# Altium integrated library Maxim Real-Time Clocks (RTCs).IntLib: 548 symbols (part 4 of 13)
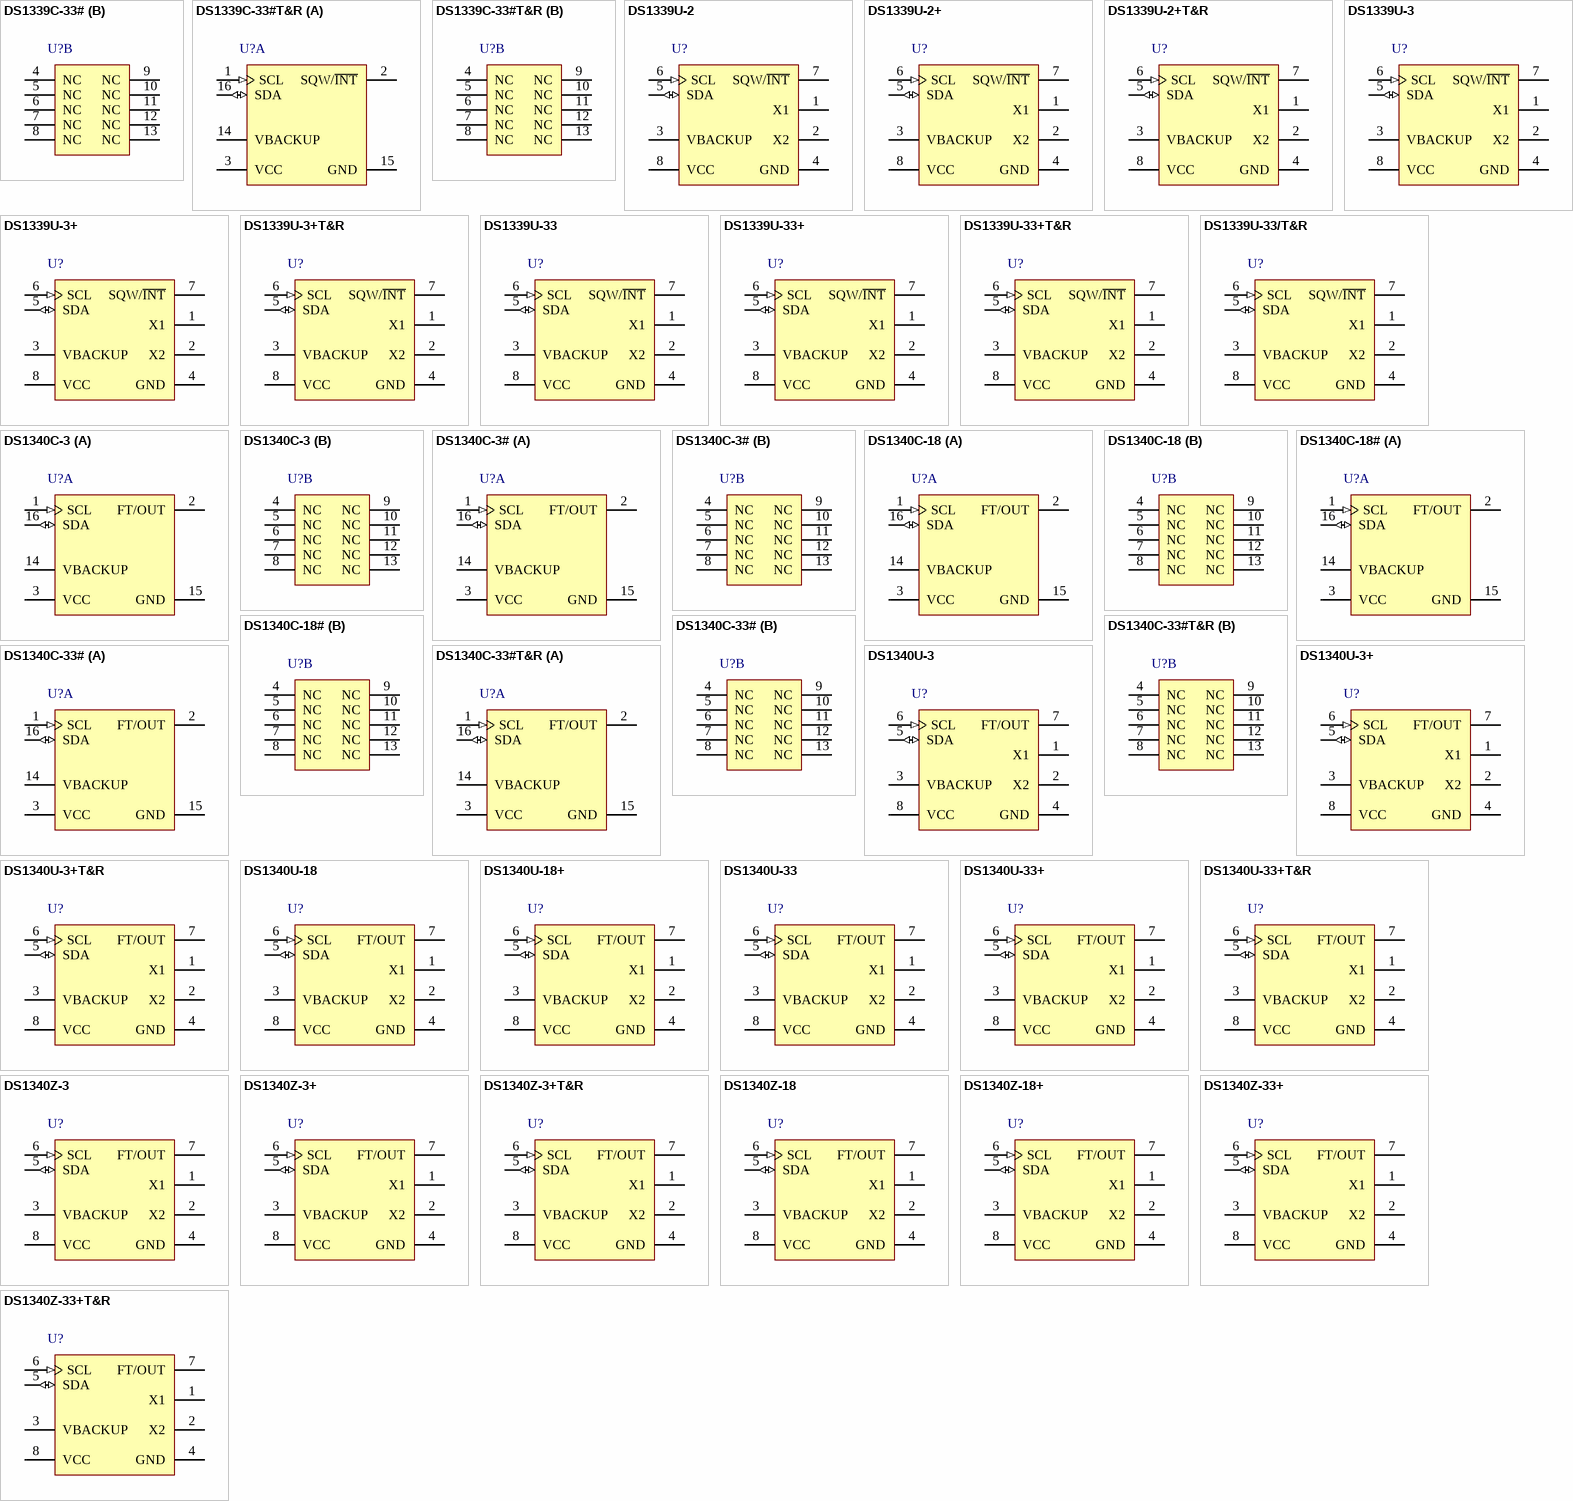
[diagram p24: symbols DS1339C-33# to DS1340Z-33+T&R]

## DS1339U-2
designator U?
I2C Serial Real-Time Clock, 2.0V, 8-Pin uSOP, -40 to 85 degC; DatasheetVersion: Apr-2011; PackageVersion: revL, 2009; PackageReference: U8-1; PackageDescription: 8-Pin Micro-MAX, Thin Shrink Small-Outline, 0.65 mm Pitch, uMAX, uSOP; Code_JEDEC: MO-187-AA; ComponentLink1Description: Manufacturer URL; ComponentLink1URL: http://www.maxim-ic.com; ComponentLink2Description: Datasheet; ComponentLink2URL: http://datasheets.maxim-ic.com/en/ds/DS1339-DS1339U.pdf; ComponentLink3Description: Package Specification; ComponentLink3URL: http://pdfserv.maxim-ic.com/package_dwgs/21-0036.PDF
footprint U8-1_N (TSOP, 8-Leads, Body 3x3mm, Pitch 0.65mm, IPC Medium Density)
footprint U8-1_L (TSOP, 8-Leads, Body 3x3mm, Pitch 0.65mm, IPC High Density)
footprint U8-1_M (TSOP, 8-Leads, Body 3x3mm, Pitch 0.65mm, IPC Low Density)
pins: 1 X1, 2 X2, 3 VBACKUP (power), 4 GND (power), 5 SDA (io), 6 SCL (in), 7 SQW/~{INT} (oc), 8 VCC (power)

## DS1339U-2+
designator U?
I2C Serial Real-Time Clock, 2.0V, 8-Pin uSOP, -40 to 85 degC, Pb-Free; DatasheetVersion: Apr-2011; PackageVersion: revL, 2009; PackageReference: U8+1; PackageDescription: 8-Pin Micro-MAX, Thin Shrink Small-Outline, 0.65 mm Pitch, uMAX, uSOP, Pb-Free; Code_JEDEC: MO-187-AA; ComponentLink1Description: Manufacturer URL; ComponentLink1URL: http://www.maxim-ic.com; ComponentLink2Description: Datasheet; ComponentLink2URL: http://datasheets.maxim-ic.com/en/ds/DS1339-DS1339U.pdf; ComponentLink3Description: Package Specification; ComponentLink3URL: http://pdfserv.maxim-ic.com/package_dwgs/21-0036.PDF
footprint U8+1_N (TSOP, 8-Leads, Body 3x3mm, Pitch 0.65mm, IPC Medium Density)
footprint U8+1_L (TSOP, 8-Leads, Body 3x3mm, Pitch 0.65mm, IPC High Density)
footprint U8+1_M (TSOP, 8-Leads, Body 3x3mm, Pitch 0.65mm, IPC Low Density)
pins: 1 X1, 2 X2, 3 VBACKUP (power), 4 GND (power), 5 SDA (io), 6 SCL (in), 7 SQW/~{INT} (oc), 8 VCC (power)

## DS1339U-2+T&R
designator U?
I2C Serial Real-Time Clock, 2.0V, 8-Pin uSOP, -40 to 85 degC, Pb-Free, Reel; DatasheetVersion: Apr-2011; PackageVersion: revL, 2009; PackageReference: U8+1; PackageDescription: 8-Pin Micro-MAX, Thin Shrink Small-Outline, 0.65 mm Pitch, uMAX, uSOP, Pb-Free; Code_JEDEC: MO-187-AA; ComponentLink1Description: Manufacturer URL; ComponentLink1URL: http://www.maxim-ic.com; ComponentLink2Description: Datasheet; ComponentLink2URL: http://datasheets.maxim-ic.com/en/ds/DS1339-DS1339U.pdf; ComponentLink3Description: Package Specification; ComponentLink3URL: http://pdfserv.maxim-ic.com/package_dwgs/21-0036.PDF
footprint U8+1_N (TSOP, 8-Leads, Body 3x3mm, Pitch 0.65mm, IPC Medium Density)
footprint U8+1_L (TSOP, 8-Leads, Body 3x3mm, Pitch 0.65mm, IPC High Density)
footprint U8+1_M (TSOP, 8-Leads, Body 3x3mm, Pitch 0.65mm, IPC Low Density)
pins: 1 X1, 2 X2, 3 VBACKUP (power), 4 GND (power), 5 SDA (io), 6 SCL (in), 7 SQW/~{INT} (oc), 8 VCC (power)

## DS1339U-3
designator U?
I2C Serial Real-Time Clock, 3.0V, 8-Pin uSOP, -40 to 85 degC; DatasheetVersion: Apr-2011; PackageVersion: revL, 2009; PackageReference: U8-1; PackageDescription: 8-Pin Micro-MAX, Thin Shrink Small-Outline, 0.65 mm Pitch, uMAX, uSOP; Code_JEDEC: MO-187-AA; ComponentLink1Description: Manufacturer URL; ComponentLink1URL: http://www.maxim-ic.com; ComponentLink2Description: Datasheet; ComponentLink2URL: http://datasheets.maxim-ic.com/en/ds/DS1339-DS1339U.pdf; ComponentLink3Description: Package Specification; ComponentLink3URL: http://pdfserv.maxim-ic.com/package_dwgs/21-0036.PDF
footprint U8-1_N (TSOP, 8-Leads, Body 3x3mm, Pitch 0.65mm, IPC Medium Density)
footprint U8-1_L (TSOP, 8-Leads, Body 3x3mm, Pitch 0.65mm, IPC High Density)
footprint U8-1_M (TSOP, 8-Leads, Body 3x3mm, Pitch 0.65mm, IPC Low Density)
pins: 1 X1, 2 X2, 3 VBACKUP (power), 4 GND (power), 5 SDA (io), 6 SCL (in), 7 SQW/~{INT} (oc), 8 VCC (power)

## DS1339U-3+
designator U?
I2C Serial Real-Time Clock, 3.0V, 8-Pin uSOP, -40 to 85 degC, Pb-Free; DatasheetVersion: Apr-2011; PackageVersion: revL, 2009; PackageReference: U8+1; PackageDescription: 8-Pin Micro-MAX, Thin Shrink Small-Outline, 0.65 mm Pitch, uMAX, uSOP, Pb-Free; Code_JEDEC: MO-187-AA; ComponentLink1Description: Manufacturer URL; ComponentLink1URL: http://www.maxim-ic.com; ComponentLink2Description: Datasheet; ComponentLink2URL: http://datasheets.maxim-ic.com/en/ds/DS1339-DS1339U.pdf; ComponentLink3Description: Package Specification; ComponentLink3URL: http://pdfserv.maxim-ic.com/package_dwgs/21-0036.PDF
footprint U8+1_N (TSOP, 8-Leads, Body 3x3mm, Pitch 0.65mm, IPC Medium Density)
footprint U8+1_L (TSOP, 8-Leads, Body 3x3mm, Pitch 0.65mm, IPC High Density)
footprint U8+1_M (TSOP, 8-Leads, Body 3x3mm, Pitch 0.65mm, IPC Low Density)
pins: 1 X1, 2 X2, 3 VBACKUP (power), 4 GND (power), 5 SDA (io), 6 SCL (in), 7 SQW/~{INT} (oc), 8 VCC (power)

## DS1339U-3+T&R
designator U?
I2C Serial Real-Time Clock, 3.0V, 8-Pin uSOP, -40 to 85 degC, Pb-Free, Reel; DatasheetVersion: Apr-2011; PackageVersion: revL, 2009; PackageReference: U8+1; PackageDescription: 8-Pin Micro-MAX, Thin Shrink Small-Outline, 0.65 mm Pitch, uMAX, uSOP, Pb-Free; Code_JEDEC: MO-187-AA; ComponentLink1Description: Manufacturer URL; ComponentLink1URL: http://www.maxim-ic.com; ComponentLink2Description: Datasheet; ComponentLink2URL: http://datasheets.maxim-ic.com/en/ds/DS1339-DS1339U.pdf; ComponentLink3Description: Package Specification; ComponentLink3URL: http://pdfserv.maxim-ic.com/package_dwgs/21-0036.PDF
footprint U8+1_N (TSOP, 8-Leads, Body 3x3mm, Pitch 0.65mm, IPC Medium Density)
footprint U8+1_L (TSOP, 8-Leads, Body 3x3mm, Pitch 0.65mm, IPC High Density)
footprint U8+1_M (TSOP, 8-Leads, Body 3x3mm, Pitch 0.65mm, IPC Low Density)
pins: 1 X1, 2 X2, 3 VBACKUP (power), 4 GND (power), 5 SDA (io), 6 SCL (in), 7 SQW/~{INT} (oc), 8 VCC (power)

## DS1339U-33
designator U?
I2C Serial Real-Time Clock, 3.3V, 8-Pin uSOP, -40 to 85 degC; DatasheetVersion: Apr-2011; PackageVersion: revL, 2009; PackageReference: U8-1; PackageDescription: 8-Pin Micro-MAX, Thin Shrink Small-Outline, 0.65 mm Pitch, uMAX, uSOP; Code_JEDEC: MO-187-AA; ComponentLink1Description: Manufacturer URL; ComponentLink1URL: http://www.maxim-ic.com; ComponentLink2Description: Datasheet; ComponentLink2URL: http://datasheets.maxim-ic.com/en/ds/DS1339-DS1339U.pdf; ComponentLink3Description: Package Specification; ComponentLink3URL: http://pdfserv.maxim-ic.com/package_dwgs/21-0036.PDF
footprint U8-1_N (TSOP, 8-Leads, Body 3x3mm, Pitch 0.65mm, IPC Medium Density)
footprint U8-1_L (TSOP, 8-Leads, Body 3x3mm, Pitch 0.65mm, IPC High Density)
footprint U8-1_M (TSOP, 8-Leads, Body 3x3mm, Pitch 0.65mm, IPC Low Density)
pins: 1 X1, 2 X2, 3 VBACKUP (power), 4 GND (power), 5 SDA (io), 6 SCL (in), 7 SQW/~{INT} (oc), 8 VCC (power)

## DS1339U-33+
designator U?
I2C Serial Real-Time Clock, 3.3V, 8-Pin uSOP, -40 to 85 degC, Pb-Free; DatasheetVersion: Apr-2011; PackageVersion: revL, 2009; PackageReference: U8+1; PackageDescription: 8-Pin Micro-MAX, Thin Shrink Small-Outline, 0.65 mm Pitch, uMAX, uSOP, Pb-Free; Code_JEDEC: MO-187-AA; ComponentLink1Description: Manufacturer URL; ComponentLink1URL: http://www.maxim-ic.com; ComponentLink2Description: Datasheet; ComponentLink2URL: http://datasheets.maxim-ic.com/en/ds/DS1339-DS1339U.pdf; ComponentLink3Description: Package Specification; ComponentLink3URL: http://pdfserv.maxim-ic.com/package_dwgs/21-0036.PDF
footprint U8+1_N (TSOP, 8-Leads, Body 3x3mm, Pitch 0.65mm, IPC Medium Density)
footprint U8+1_L (TSOP, 8-Leads, Body 3x3mm, Pitch 0.65mm, IPC High Density)
footprint U8+1_M (TSOP, 8-Leads, Body 3x3mm, Pitch 0.65mm, IPC Low Density)
pins: 1 X1, 2 X2, 3 VBACKUP (power), 4 GND (power), 5 SDA (io), 6 SCL (in), 7 SQW/~{INT} (oc), 8 VCC (power)

## DS1339U-33+T&R
designator U?
I2C Serial Real-Time Clock, 3.3V, 8-Pin uSOP, -40 to 85 degC, Pb-Free, Reel; DatasheetVersion: Apr-2011; PackageVersion: revL, 2009; PackageReference: U8+1; PackageDescription: 8-Pin Micro-MAX, Thin Shrink Small-Outline, 0.65 mm Pitch, uMAX, uSOP, Pb-Free; Code_JEDEC: MO-187-AA; ComponentLink1Description: Manufacturer URL; ComponentLink1URL: http://www.maxim-ic.com; ComponentLink2Description: Datasheet; ComponentLink2URL: http://datasheets.maxim-ic.com/en/ds/DS1339-DS1339U.pdf; ComponentLink3Description: Package Specification; ComponentLink3URL: http://pdfserv.maxim-ic.com/package_dwgs/21-0036.PDF
footprint U8+1_N (TSOP, 8-Leads, Body 3x3mm, Pitch 0.65mm, IPC Medium Density)
footprint U8+1_L (TSOP, 8-Leads, Body 3x3mm, Pitch 0.65mm, IPC High Density)
footprint U8+1_M (TSOP, 8-Leads, Body 3x3mm, Pitch 0.65mm, IPC Low Density)
pins: 1 X1, 2 X2, 3 VBACKUP (power), 4 GND (power), 5 SDA (io), 6 SCL (in), 7 SQW/~{INT} (oc), 8 VCC (power)

## DS1339U-33/T&R
designator U?
I2C Serial Real-Time Clock, 3.3V, 8-Pin uSOP, -40 to 85 degC, Reel; DatasheetVersion: Apr-2011; PackageVersion: revL, 2009; PackageReference: U8-1; PackageDescription: 8-Pin Micro-MAX, Thin Shrink Small-Outline, 0.65 mm Pitch, uMAX, uSOP; Code_JEDEC: MO-187-AA; ComponentLink1Description: Manufacturer URL; ComponentLink1URL: http://www.maxim-ic.com; ComponentLink2Description: Datasheet; ComponentLink2URL: http://datasheets.maxim-ic.com/en/ds/DS1339-DS1339U.pdf; ComponentLink3Description: Package Specification; ComponentLink3URL: http://pdfserv.maxim-ic.com/package_dwgs/21-0036.PDF
footprint U8-1_N (TSOP, 8-Leads, Body 3x3mm, Pitch 0.65mm, IPC Medium Density)
footprint U8-1_L (TSOP, 8-Leads, Body 3x3mm, Pitch 0.65mm, IPC High Density)
footprint U8-1_M (TSOP, 8-Leads, Body 3x3mm, Pitch 0.65mm, IPC Low Density)
pins: 1 X1, 2 X2, 3 VBACKUP (power), 4 GND (power), 5 SDA (io), 6 SCL (in), 7 SQW/~{INT} (oc), 8 VCC (power)

## DS1340C-3
designator U?
I2C Real-Time Clock with Trickle Charger, 3.0V, 16-Pin SO, -40 to 85 degC; DatasheetVersion: rev7, Aug-2011; PackageVersion: revD, 2010; PackageReference: W16-H2; PackageDescription: 16-Pin Small-Outline IC, Wide (0.3in), 1.27 mm Pitch, SOIC (W); Code_JEDEC: MS-013-AA; Code_IPC: SOIC127P1030-16; ComponentLink1Description: Manufacturer URL; ComponentLink1URL: http://www.maxim-ic.com; ComponentLink2Description: Datasheet; ComponentLink2URL: http://datasheets.maxim-ic.com/en/ds/DS1340-DS1340C.pdf; ComponentLink3Description: Package Specification; ComponentLink3URL: http://pdfserv.maxim-ic.com/package_dwgs/21-0042.PDF
footprint W16-H2_N (SOIC, 16-Leads, Body 10.3x7.5mm, Pitch 1.27mm, IPC Medium Density)
footprint W16-H2_L (SOIC, 16-Leads, Body 10.3x7.5mm, Pitch 1.27mm, IPC High Density)
footprint W16-H2_M (SOIC, 16-Leads, Body 10.3x7.5mm, Pitch 1.27mm, IPC Low Density)
part A pins: 1 SCL (in), 2 FT/OUT (oc), 3 VCC (power), 14 VBACKUP (power), 15 GND (power), 16 SDA (io)
part B pins: 4 NC, 5 NC, 6 NC, 7 NC, 8 NC, 9 NC, 10 NC, 11 NC, 12 NC, 13 NC

## DS1340C-3#
designator U?
I2C Real-Time Clock with Trickle Charger, 3.0V, 16-Pin SO, -40 to 85 degC, RoHS Qualified; DatasheetVersion: rev7, Aug-2011; PackageVersion: revD, 2010; PackageReference: W16#H2; PackageDescription: 16-Pin Small-Outline IC, Wide (0.3in), 1.27 mm Pitch, SOIC (W), RoHS Qualified; Code_JEDEC: MS-013-AA; Code_IPC: SOIC127P1030-16; ComponentLink1Description: Manufacturer URL; ComponentLink1URL: http://www.maxim-ic.com; ComponentLink2Description: Datasheet; ComponentLink2URL: http://datasheets.maxim-ic.com/en/ds/DS1340-DS1340C.pdf; ComponentLink3Description: Package Specification; ComponentLink3URL: http://pdfserv.maxim-ic.com/package_dwgs/21-0042.PDF
footprint W16#H2_N (SOIC, 16-Leads, Body 10.3x7.5mm, Pitch 1.27mm, IPC Medium Density)
footprint W16#H2_L (SOIC, 16-Leads, Body 10.3x7.5mm, Pitch 1.27mm, IPC High Density)
footprint W16#H2_M (SOIC, 16-Leads, Body 10.3x7.5mm, Pitch 1.27mm, IPC Low Density)
part A pins: 1 SCL (in), 2 FT/OUT (oc), 3 VCC (power), 14 VBACKUP (power), 15 GND (power), 16 SDA (io)
part B pins: 4 NC, 5 NC, 6 NC, 7 NC, 8 NC, 9 NC, 10 NC, 11 NC, 12 NC, 13 NC

## DS1340C-18
designator U?
I2C Real-Time Clock with Trickle Charger, 1.8V, 16-Pin SO, -40 to 85 degC; DatasheetVersion: rev7, Aug-2011; PackageVersion: revD, 2010; PackageReference: W16-H2; PackageDescription: 16-Pin Small-Outline IC, Wide (0.3in), 1.27 mm Pitch, SOIC (W); Code_JEDEC: MS-013-AA; Code_IPC: SOIC127P1030-16; ComponentLink1Description: Manufacturer URL; ComponentLink1URL: http://www.maxim-ic.com; ComponentLink2Description: Datasheet; ComponentLink2URL: http://datasheets.maxim-ic.com/en/ds/DS1340-DS1340C.pdf; ComponentLink3Description: Package Specification; ComponentLink3URL: http://pdfserv.maxim-ic.com/package_dwgs/21-0042.PDF
footprint W16-H2_N (SOIC, 16-Leads, Body 10.3x7.5mm, Pitch 1.27mm, IPC Medium Density)
footprint W16-H2_L (SOIC, 16-Leads, Body 10.3x7.5mm, Pitch 1.27mm, IPC High Density)
footprint W16-H2_M (SOIC, 16-Leads, Body 10.3x7.5mm, Pitch 1.27mm, IPC Low Density)
part A pins: 1 SCL (in), 2 FT/OUT (oc), 3 VCC (power), 14 VBACKUP (power), 15 GND (power), 16 SDA (io)
part B pins: 4 NC, 5 NC, 6 NC, 7 NC, 8 NC, 9 NC, 10 NC, 11 NC, 12 NC, 13 NC

## DS1340C-18#
designator U?
I2C Real-Time Clock with Trickle Charger, 1.8V, 16-Pin SO, -40 to 85 degC, RoHS Qualified; DatasheetVersion: rev7, Aug-2011; PackageVersion: revD, 2010; PackageReference: W16#H2; PackageDescription: 16-Pin Small-Outline IC, Wide (0.3in), 1.27 mm Pitch, SOIC (W), RoHS Qualified; Code_JEDEC: MS-013-AA; Code_IPC: SOIC127P1030-16; ComponentLink1Description: Manufacturer URL; ComponentLink1URL: http://www.maxim-ic.com; ComponentLink2Description: Datasheet; ComponentLink2URL: http://datasheets.maxim-ic.com/en/ds/DS1340-DS1340C.pdf; ComponentLink3Description: Package Specification; ComponentLink3URL: http://pdfserv.maxim-ic.com/package_dwgs/21-0042.PDF
footprint W16#H2_N (SOIC, 16-Leads, Body 10.3x7.5mm, Pitch 1.27mm, IPC Medium Density)
footprint W16#H2_L (SOIC, 16-Leads, Body 10.3x7.5mm, Pitch 1.27mm, IPC High Density)
footprint W16#H2_M (SOIC, 16-Leads, Body 10.3x7.5mm, Pitch 1.27mm, IPC Low Density)
part A pins: 1 SCL (in), 2 FT/OUT (oc), 3 VCC (power), 14 VBACKUP (power), 15 GND (power), 16 SDA (io)
part B pins: 4 NC, 5 NC, 6 NC, 7 NC, 8 NC, 9 NC, 10 NC, 11 NC, 12 NC, 13 NC

## DS1340C-33#
designator U?
I2C Real-Time Clock with Trickle Charger, 3.3V, 16-Pin SO, -40 to 85 degC, RoHS Qualified; DatasheetVersion: rev7, Aug-2011; PackageVersion: revD, 2010; PackageReference: W16#H2; PackageDescription: 16-Pin Small-Outline IC, Wide (0.3in), 1.27 mm Pitch, SOIC (W), RoHS Qualified; Code_JEDEC: MS-013-AA; Code_IPC: SOIC127P1030-16; ComponentLink1Description: Manufacturer URL; ComponentLink1URL: http://www.maxim-ic.com; ComponentLink2Description: Datasheet; ComponentLink2URL: http://datasheets.maxim-ic.com/en/ds/DS1340-DS1340C.pdf; ComponentLink3Description: Package Specification; ComponentLink3URL: http://pdfserv.maxim-ic.com/package_dwgs/21-0042.PDF
footprint W16#H2_N (SOIC, 16-Leads, Body 10.3x7.5mm, Pitch 1.27mm, IPC Medium Density)
footprint W16#H2_L (SOIC, 16-Leads, Body 10.3x7.5mm, Pitch 1.27mm, IPC High Density)
footprint W16#H2_M (SOIC, 16-Leads, Body 10.3x7.5mm, Pitch 1.27mm, IPC Low Density)
part A pins: 1 SCL (in), 2 FT/OUT (oc), 3 VCC (power), 14 VBACKUP (power), 15 GND (power), 16 SDA (io)
part B pins: 4 NC, 5 NC, 6 NC, 7 NC, 8 NC, 9 NC, 10 NC, 11 NC, 12 NC, 13 NC

## DS1340C-33#T&R
designator U?
I2C Real-Time Clock with Trickle Charger, 3.3V, 16-Pin SO, -40 to 85 degC, RoHS Qualified, Reel; DatasheetVersion: rev7, Aug-2011; PackageVersion: revD, 2010; PackageReference: W16#H2; PackageDescription: 16-Pin Small-Outline IC, Wide (0.3in), 1.27 mm Pitch, SOIC (W), RoHS Qualified; Code_JEDEC: MS-013-AA; Code_IPC: SOIC127P1030-16; ComponentLink1Description: Manufacturer URL; ComponentLink1URL: http://www.maxim-ic.com; ComponentLink2Description: Datasheet; ComponentLink2URL: http://datasheets.maxim-ic.com/en/ds/DS1340-DS1340C.pdf; ComponentLink3Description: Package Specification; ComponentLink3URL: http://pdfserv.maxim-ic.com/package_dwgs/21-0042.PDF
footprint W16#H2_N (SOIC, 16-Leads, Body 10.3x7.5mm, Pitch 1.27mm, IPC Medium Density)
footprint W16#H2_L (SOIC, 16-Leads, Body 10.3x7.5mm, Pitch 1.27mm, IPC High Density)
footprint W16#H2_M (SOIC, 16-Leads, Body 10.3x7.5mm, Pitch 1.27mm, IPC Low Density)
part A pins: 1 SCL (in), 2 FT/OUT (oc), 3 VCC (power), 14 VBACKUP (power), 15 GND (power), 16 SDA (io)
part B pins: 4 NC, 5 NC, 6 NC, 7 NC, 8 NC, 9 NC, 10 NC, 11 NC, 12 NC, 13 NC

## DS1340U-3
designator U?
I2C Real-Time Clock with Trickle Charger, 3.0V, 8-Pin uSOP, -40 to 85 degC; DatasheetVersion: rev7, Aug-2011; PackageVersion: revL, 2009; PackageReference: U8-1; PackageDescription: 8-Pin Micro-MAX, Thin Shrink Small-Outline, 0.65 mm Pitch, uMAX, uSOP; Code_JEDEC: MO-187-AA; ComponentLink1Description: Manufacturer URL; ComponentLink1URL: http://www.maxim-ic.com; ComponentLink2Description: Datasheet; ComponentLink2URL: http://datasheets.maxim-ic.com/en/ds/DS1340-DS1340C.pdf; ComponentLink3Description: Package Specification; ComponentLink3URL: http://pdfserv.maxim-ic.com/package_dwgs/21-0036.PDF
footprint U8-1_N (TSOP, 8-Leads, Body 3x3mm, Pitch 0.65mm, IPC Medium Density)
footprint U8-1_L (TSOP, 8-Leads, Body 3x3mm, Pitch 0.65mm, IPC High Density)
footprint U8-1_M (TSOP, 8-Leads, Body 3x3mm, Pitch 0.65mm, IPC Low Density)
pins: 1 X1, 2 X2, 3 VBACKUP (power), 4 GND (power), 5 SDA (io), 6 SCL (in), 7 FT/OUT (oc), 8 VCC (power)

## DS1340U-3+
designator U?
I2C Real-Time Clock with Trickle Charger, 3.0V, 8-Pin uSOP, -40 to 85 degC, Pb-Free; DatasheetVersion: rev7, Aug-2011; PackageVersion: revL, 2009; PackageReference: U8+1; PackageDescription: 8-Pin Micro-MAX, Thin Shrink Small-Outline, 0.65 mm Pitch, uMAX, uSOP, Pb-Free; Code_JEDEC: MO-187-AA; ComponentLink1Description: Manufacturer URL; ComponentLink1URL: http://www.maxim-ic.com; ComponentLink2Description: Datasheet; ComponentLink2URL: http://datasheets.maxim-ic.com/en/ds/DS1340-DS1340C.pdf; ComponentLink3Description: Package Specification; ComponentLink3URL: http://pdfserv.maxim-ic.com/package_dwgs/21-0036.PDF
footprint U8+1_N (TSOP, 8-Leads, Body 3x3mm, Pitch 0.65mm, IPC Medium Density)
footprint U8+1_L (TSOP, 8-Leads, Body 3x3mm, Pitch 0.65mm, IPC High Density)
footprint U8+1_M (TSOP, 8-Leads, Body 3x3mm, Pitch 0.65mm, IPC Low Density)
pins: 1 X1, 2 X2, 3 VBACKUP (power), 4 GND (power), 5 SDA (io), 6 SCL (in), 7 FT/OUT (oc), 8 VCC (power)

## DS1340U-3+T&R
designator U?
I2C Real-Time Clock with Trickle Charger, 3.0V, 8-Pin uSOP, -40 to 85 degC, Pb-Free, Reel; DatasheetVersion: rev7, Aug-2011; PackageVersion: revL, 2009; PackageReference: U8+1; PackageDescription: 8-Pin Micro-MAX, Thin Shrink Small-Outline, 0.65 mm Pitch, uMAX, uSOP, Pb-Free; Code_JEDEC: MO-187-AA; ComponentLink1Description: Manufacturer URL; ComponentLink1URL: http://www.maxim-ic.com; ComponentLink2Description: Datasheet; ComponentLink2URL: http://datasheets.maxim-ic.com/en/ds/DS1340-DS1340C.pdf; ComponentLink3Description: Package Specification; ComponentLink3URL: http://pdfserv.maxim-ic.com/package_dwgs/21-0036.PDF
footprint U8+1_N (TSOP, 8-Leads, Body 3x3mm, Pitch 0.65mm, IPC Medium Density)
footprint U8+1_L (TSOP, 8-Leads, Body 3x3mm, Pitch 0.65mm, IPC High Density)
footprint U8+1_M (TSOP, 8-Leads, Body 3x3mm, Pitch 0.65mm, IPC Low Density)
pins: 1 X1, 2 X2, 3 VBACKUP (power), 4 GND (power), 5 SDA (io), 6 SCL (in), 7 FT/OUT (oc), 8 VCC (power)

## DS1340U-18
designator U?
I2C Real-Time Clock with Trickle Charger, 1.8V, 8-Pin uSOP, -40 to 85 degC; DatasheetVersion: rev7, Aug-2011; PackageVersion: revL, 2009; PackageReference: U8-1; PackageDescription: 8-Pin Micro-MAX, Thin Shrink Small-Outline, 0.65 mm Pitch, uMAX, uSOP; Code_JEDEC: MO-187-AA; ComponentLink1Description: Manufacturer URL; ComponentLink1URL: http://www.maxim-ic.com; ComponentLink2Description: Datasheet; ComponentLink2URL: http://datasheets.maxim-ic.com/en/ds/DS1340-DS1340C.pdf; ComponentLink3Description: Package Specification; ComponentLink3URL: http://pdfserv.maxim-ic.com/package_dwgs/21-0036.PDF
footprint U8-1_N (TSOP, 8-Leads, Body 3x3mm, Pitch 0.65mm, IPC Medium Density)
footprint U8-1_L (TSOP, 8-Leads, Body 3x3mm, Pitch 0.65mm, IPC High Density)
footprint U8-1_M (TSOP, 8-Leads, Body 3x3mm, Pitch 0.65mm, IPC Low Density)
pins: 1 X1, 2 X2, 3 VBACKUP (power), 4 GND (power), 5 SDA (io), 6 SCL (in), 7 FT/OUT (oc), 8 VCC (power)

## DS1340U-18+
designator U?
I2C Real-Time Clock with Trickle Charger, 1.8V, 8-Pin uSOP, -40 to 85 degC, Pb-Free; DatasheetVersion: rev7, Aug-2011; PackageVersion: revL, 2009; PackageReference: U8+1; PackageDescription: 8-Pin Micro-MAX, Thin Shrink Small-Outline, 0.65 mm Pitch, uMAX, uSOP, Pb-Free; Code_JEDEC: MO-187-AA; ComponentLink1Description: Manufacturer URL; ComponentLink1URL: http://www.maxim-ic.com; ComponentLink2Description: Datasheet; ComponentLink2URL: http://datasheets.maxim-ic.com/en/ds/DS1340-DS1340C.pdf; ComponentLink3Description: Package Specification; ComponentLink3URL: http://pdfserv.maxim-ic.com/package_dwgs/21-0036.PDF
footprint U8+1_N (TSOP, 8-Leads, Body 3x3mm, Pitch 0.65mm, IPC Medium Density)
footprint U8+1_L (TSOP, 8-Leads, Body 3x3mm, Pitch 0.65mm, IPC High Density)
footprint U8+1_M (TSOP, 8-Leads, Body 3x3mm, Pitch 0.65mm, IPC Low Density)
pins: 1 X1, 2 X2, 3 VBACKUP (power), 4 GND (power), 5 SDA (io), 6 SCL (in), 7 FT/OUT (oc), 8 VCC (power)

## DS1340U-33
designator U?
I2C Real-Time Clock with Trickle Charger, 3.3V, 8-Pin uSOP, -40 to 85 degC; DatasheetVersion: rev7, Aug-2011; PackageVersion: revL, 2009; PackageReference: U8-1; PackageDescription: 8-Pin Micro-MAX, Thin Shrink Small-Outline, 0.65 mm Pitch, uMAX, uSOP; Code_JEDEC: MO-187-AA; ComponentLink1Description: Manufacturer URL; ComponentLink1URL: http://www.maxim-ic.com; ComponentLink2Description: Datasheet; ComponentLink2URL: http://datasheets.maxim-ic.com/en/ds/DS1340-DS1340C.pdf; ComponentLink3Description: Package Specification; ComponentLink3URL: http://pdfserv.maxim-ic.com/package_dwgs/21-0036.PDF
footprint U8-1_N (TSOP, 8-Leads, Body 3x3mm, Pitch 0.65mm, IPC Medium Density)
footprint U8-1_L (TSOP, 8-Leads, Body 3x3mm, Pitch 0.65mm, IPC High Density)
footprint U8-1_M (TSOP, 8-Leads, Body 3x3mm, Pitch 0.65mm, IPC Low Density)
pins: 1 X1, 2 X2, 3 VBACKUP (power), 4 GND (power), 5 SDA (io), 6 SCL (in), 7 FT/OUT (oc), 8 VCC (power)

## DS1340U-33+
designator U?
I2C Real-Time Clock with Trickle Charger, 3.3V, 8-Pin uSOP, -40 to 85 degC, Pb-Free; DatasheetVersion: rev7, Aug-2011; PackageVersion: revL, 2009; PackageReference: U8+1; PackageDescription: 8-Pin Micro-MAX, Thin Shrink Small-Outline, 0.65 mm Pitch, uMAX, uSOP, Pb-Free; Code_JEDEC: MO-187-AA; ComponentLink1Description: Manufacturer URL; ComponentLink1URL: http://www.maxim-ic.com; ComponentLink2Description: Datasheet; ComponentLink2URL: http://datasheets.maxim-ic.com/en/ds/DS1340-DS1340C.pdf; ComponentLink3Description: Package Specification; ComponentLink3URL: http://pdfserv.maxim-ic.com/package_dwgs/21-0036.PDF
footprint U8+1_N (TSOP, 8-Leads, Body 3x3mm, Pitch 0.65mm, IPC Medium Density)
footprint U8+1_L (TSOP, 8-Leads, Body 3x3mm, Pitch 0.65mm, IPC High Density)
footprint U8+1_M (TSOP, 8-Leads, Body 3x3mm, Pitch 0.65mm, IPC Low Density)
pins: 1 X1, 2 X2, 3 VBACKUP (power), 4 GND (power), 5 SDA (io), 6 SCL (in), 7 FT/OUT (oc), 8 VCC (power)

## DS1340U-33+T&R
designator U?
I2C Real-Time Clock with Trickle Charger, 3.3V, 8-Pin uSOP, -40 to 85 degC, Pb-Free, Reel; DatasheetVersion: rev7, Aug-2011; PackageVersion: revL, 2009; PackageReference: U8+1; PackageDescription: 8-Pin Micro-MAX, Thin Shrink Small-Outline, 0.65 mm Pitch, uMAX, uSOP, Pb-Free; Code_JEDEC: MO-187-AA; ComponentLink1Description: Manufacturer URL; ComponentLink1URL: http://www.maxim-ic.com; ComponentLink2Description: Datasheet; ComponentLink2URL: http://datasheets.maxim-ic.com/en/ds/DS1340-DS1340C.pdf; ComponentLink3Description: Package Specification; ComponentLink3URL: http://pdfserv.maxim-ic.com/package_dwgs/21-0036.PDF
footprint U8+1_N (TSOP, 8-Leads, Body 3x3mm, Pitch 0.65mm, IPC Medium Density)
footprint U8+1_L (TSOP, 8-Leads, Body 3x3mm, Pitch 0.65mm, IPC High Density)
footprint U8+1_M (TSOP, 8-Leads, Body 3x3mm, Pitch 0.65mm, IPC Low Density)
pins: 1 X1, 2 X2, 3 VBACKUP (power), 4 GND (power), 5 SDA (io), 6 SCL (in), 7 FT/OUT (oc), 8 VCC (power)

## DS1340Z-3
designator U?
I2C Real-Time Clock with Trickle Charger, 3.0V, 8-Pin SO, -40 to 85 degC; DatasheetVersion: rev7, Aug-2011; PackageVersion: revC, 2010; PackageReference: S8-2; PackageDescription: 8-Pin Small-Outline IC, Narrow (0.15in), 1.27 mm Pitch, SOIC (N); Code_JEDEC: MS-012-AA; Code_IPC: SOIC127P600-8; ComponentLink1Description: Manufacturer URL; ComponentLink1URL: http://www.maxim-ic.com; ComponentLink2Description: Datasheet; ComponentLink2URL: http://datasheets.maxim-ic.com/en/ds/DS1340-DS1340C.pdf; ComponentLink3Description: Package Specification; ComponentLink3URL: http://pdfserv.maxim-ic.com/package_dwgs/21-0041.PDF
footprint S8-2_N (SOIC, 8-Leads, Body 4.9x3.9mm, Pitch 1.27mm, IPC Medium Density)
footprint S8-2_L (SOIC, 8-Leads, Body 4.9x3.9mm, Pitch 1.27mm, IPC High Density)
footprint S8-2_M (SOIC, 8-Leads, Body 4.9x3.9mm, Pitch 1.27mm, IPC Low Density)
pins: 1 X1, 2 X2, 3 VBACKUP (power), 4 GND (power), 5 SDA (io), 6 SCL (in), 7 FT/OUT (oc), 8 VCC (power)

## DS1340Z-3+
designator U?
I2C Real-Time Clock with Trickle Charger, 3.0V, 8-Pin SO, -40 to 85 degC, Pb-Free; DatasheetVersion: rev7, Aug-2011; PackageVersion: revC, 2010; PackageReference: S8+2; PackageDescription: 8-Pin Small-Outline IC, Narrow (0.15in), 1.27 mm Pitch, SOIC (N), Pb-Free; Code_JEDEC: MS-012-AA; Code_IPC: SOIC127P600-8; ComponentLink1Description: Manufacturer URL; ComponentLink1URL: http://www.maxim-ic.com; ComponentLink2Description: Datasheet; ComponentLink2URL: http://datasheets.maxim-ic.com/en/ds/DS1340-DS1340C.pdf; ComponentLink3Description: Package Specification; ComponentLink3URL: http://pdfserv.maxim-ic.com/package_dwgs/21-0041.PDF
footprint S8+2_N (SOIC, 8-Leads, Body 4.9x3.9mm, Pitch 1.27mm, IPC Medium Density)
footprint S8+2_L (SOIC, 8-Leads, Body 4.9x3.9mm, Pitch 1.27mm, IPC High Density)
footprint S8+2_M (SOIC, 8-Leads, Body 4.9x3.9mm, Pitch 1.27mm, IPC Low Density)
pins: 1 X1, 2 X2, 3 VBACKUP (power), 4 GND (power), 5 SDA (io), 6 SCL (in), 7 FT/OUT (oc), 8 VCC (power)

## DS1340Z-3+T&R
designator U?
I2C Real-Time Clock with Trickle Charger, 3.0V, 8-Pin SO, -40 to 85 degC, Pb-Free, Reel; DatasheetVersion: rev7, Aug-2011; PackageVersion: revC, 2010; PackageReference: S8+2; PackageDescription: 8-Pin Small-Outline IC, Narrow (0.15in), 1.27 mm Pitch, SOIC (N), Pb-Free; Code_JEDEC: MS-012-AA; Code_IPC: SOIC127P600-8; ComponentLink1Description: Manufacturer URL; ComponentLink1URL: http://www.maxim-ic.com; ComponentLink2Description: Datasheet; ComponentLink2URL: http://datasheets.maxim-ic.com/en/ds/DS1340-DS1340C.pdf; ComponentLink3Description: Package Specification; ComponentLink3URL: http://pdfserv.maxim-ic.com/package_dwgs/21-0041.PDF
footprint S8+2_N (SOIC, 8-Leads, Body 4.9x3.9mm, Pitch 1.27mm, IPC Medium Density)
footprint S8+2_L (SOIC, 8-Leads, Body 4.9x3.9mm, Pitch 1.27mm, IPC High Density)
footprint S8+2_M (SOIC, 8-Leads, Body 4.9x3.9mm, Pitch 1.27mm, IPC Low Density)
pins: 1 X1, 2 X2, 3 VBACKUP (power), 4 GND (power), 5 SDA (io), 6 SCL (in), 7 FT/OUT (oc), 8 VCC (power)

## DS1340Z-18
designator U?
I2C Real-Time Clock with Trickle Charger, 1.8V, 8-Pin SO, -40 to 85 degC; DatasheetVersion: rev7, Aug-2011; PackageVersion: revC, 2010; PackageReference: S8-2; PackageDescription: 8-Pin Small-Outline IC, Narrow (0.15in), 1.27 mm Pitch, SOIC (N); Code_JEDEC: MS-012-AA; Code_IPC: SOIC127P600-8; ComponentLink1Description: Manufacturer URL; ComponentLink1URL: http://www.maxim-ic.com; ComponentLink2Description: Datasheet; ComponentLink2URL: http://datasheets.maxim-ic.com/en/ds/DS1340-DS1340C.pdf; ComponentLink3Description: Package Specification; ComponentLink3URL: http://pdfserv.maxim-ic.com/package_dwgs/21-0041.PDF
footprint S8-2_N (SOIC, 8-Leads, Body 4.9x3.9mm, Pitch 1.27mm, IPC Medium Density)
footprint S8-2_L (SOIC, 8-Leads, Body 4.9x3.9mm, Pitch 1.27mm, IPC High Density)
footprint S8-2_M (SOIC, 8-Leads, Body 4.9x3.9mm, Pitch 1.27mm, IPC Low Density)
pins: 1 X1, 2 X2, 3 VBACKUP (power), 4 GND (power), 5 SDA (io), 6 SCL (in), 7 FT/OUT (oc), 8 VCC (power)

## DS1340Z-18+
designator U?
I2C Real-Time Clock with Trickle Charger, 1.8V, 8-Pin SO, -40 to 85 degC, Pb-Free; DatasheetVersion: rev7, Aug-2011; PackageVersion: revC, 2010; PackageReference: S8+2; PackageDescription: 8-Pin Small-Outline IC, Narrow (0.15in), 1.27 mm Pitch, SOIC (N), Pb-Free; Code_JEDEC: MS-012-AA; Code_IPC: SOIC127P600-8; ComponentLink1Description: Manufacturer URL; ComponentLink1URL: http://www.maxim-ic.com; ComponentLink2Description: Datasheet; ComponentLink2URL: http://datasheets.maxim-ic.com/en/ds/DS1340-DS1340C.pdf; ComponentLink3Description: Package Specification; ComponentLink3URL: http://pdfserv.maxim-ic.com/package_dwgs/21-0041.PDF
footprint S8+2_N (SOIC, 8-Leads, Body 4.9x3.9mm, Pitch 1.27mm, IPC Medium Density)
footprint S8+2_L (SOIC, 8-Leads, Body 4.9x3.9mm, Pitch 1.27mm, IPC High Density)
footprint S8+2_M (SOIC, 8-Leads, Body 4.9x3.9mm, Pitch 1.27mm, IPC Low Density)
pins: 1 X1, 2 X2, 3 VBACKUP (power), 4 GND (power), 5 SDA (io), 6 SCL (in), 7 FT/OUT (oc), 8 VCC (power)

## DS1340Z-33+
designator U?
I2C Real-Time Clock with Trickle Charger, 3.3V, 8-Pin SO, -40 to 85 degC, Pb-Free; DatasheetVersion: rev7, Aug-2011; PackageVersion: revC, 2010; PackageReference: S8+4; PackageDescription: 8-Pin Small-Outline IC, Narrow (0.15in), 1.27 mm Pitch, SOIC (N), Pb-Free; Code_JEDEC: MS-012-AA; Code_IPC: SOIC127P600-8; ComponentLink1Description: Manufacturer URL; ComponentLink1URL: http://www.maxim-ic.com; ComponentLink2Description: Datasheet; ComponentLink2URL: http://datasheets.maxim-ic.com/en/ds/DS1340-DS1340C.pdf; ComponentLink3Description: Package Specification; ComponentLink3URL: http://pdfserv.maxim-ic.com/package_dwgs/21-0041.PDF
footprint S8+4_N (SOIC, 8-Leads, Body 4.9x3.9mm, Pitch 1.27mm, IPC Medium Density)
footprint S8+4_L (SOIC, 8-Leads, Body 4.9x3.9mm, Pitch 1.27mm, IPC High Density)
footprint S8+4_M (SOIC, 8-Leads, Body 4.9x3.9mm, Pitch 1.27mm, IPC Low Density)
pins: 1 X1, 2 X2, 3 VBACKUP (power), 4 GND (power), 5 SDA (io), 6 SCL (in), 7 FT/OUT (oc), 8 VCC (power)

## DS1340Z-33+T&R
designator U?
I2C Real-Time Clock with Trickle Charger, 3.3V, 8-Pin SO, -40 to 85 degC, Pb-Free, Reel; DatasheetVersion: rev7, Aug-2011; PackageVersion: revC, 2010; PackageReference: S8+4; PackageDescription: 8-Pin Small-Outline IC, Narrow (0.15in), 1.27 mm Pitch, SOIC (N), Pb-Free; Code_JEDEC: MS-012-AA; Code_IPC: SOIC127P600-8; ComponentLink1Description: Manufacturer URL; ComponentLink1URL: http://www.maxim-ic.com; ComponentLink2Description: Datasheet; ComponentLink2URL: http://datasheets.maxim-ic.com/en/ds/DS1340-DS1340C.pdf; ComponentLink3Description: Package Specification; ComponentLink3URL: http://pdfserv.maxim-ic.com/package_dwgs/21-0041.PDF
footprint S8+4_N (SOIC, 8-Leads, Body 4.9x3.9mm, Pitch 1.27mm, IPC Medium Density)
footprint S8+4_L (SOIC, 8-Leads, Body 4.9x3.9mm, Pitch 1.27mm, IPC High Density)
footprint S8+4_M (SOIC, 8-Leads, Body 4.9x3.9mm, Pitch 1.27mm, IPC Low Density)
pins: 1 X1, 2 X2, 3 VBACKUP (power), 4 GND (power), 5 SDA (io), 6 SCL (in), 7 FT/OUT (oc), 8 VCC (power)

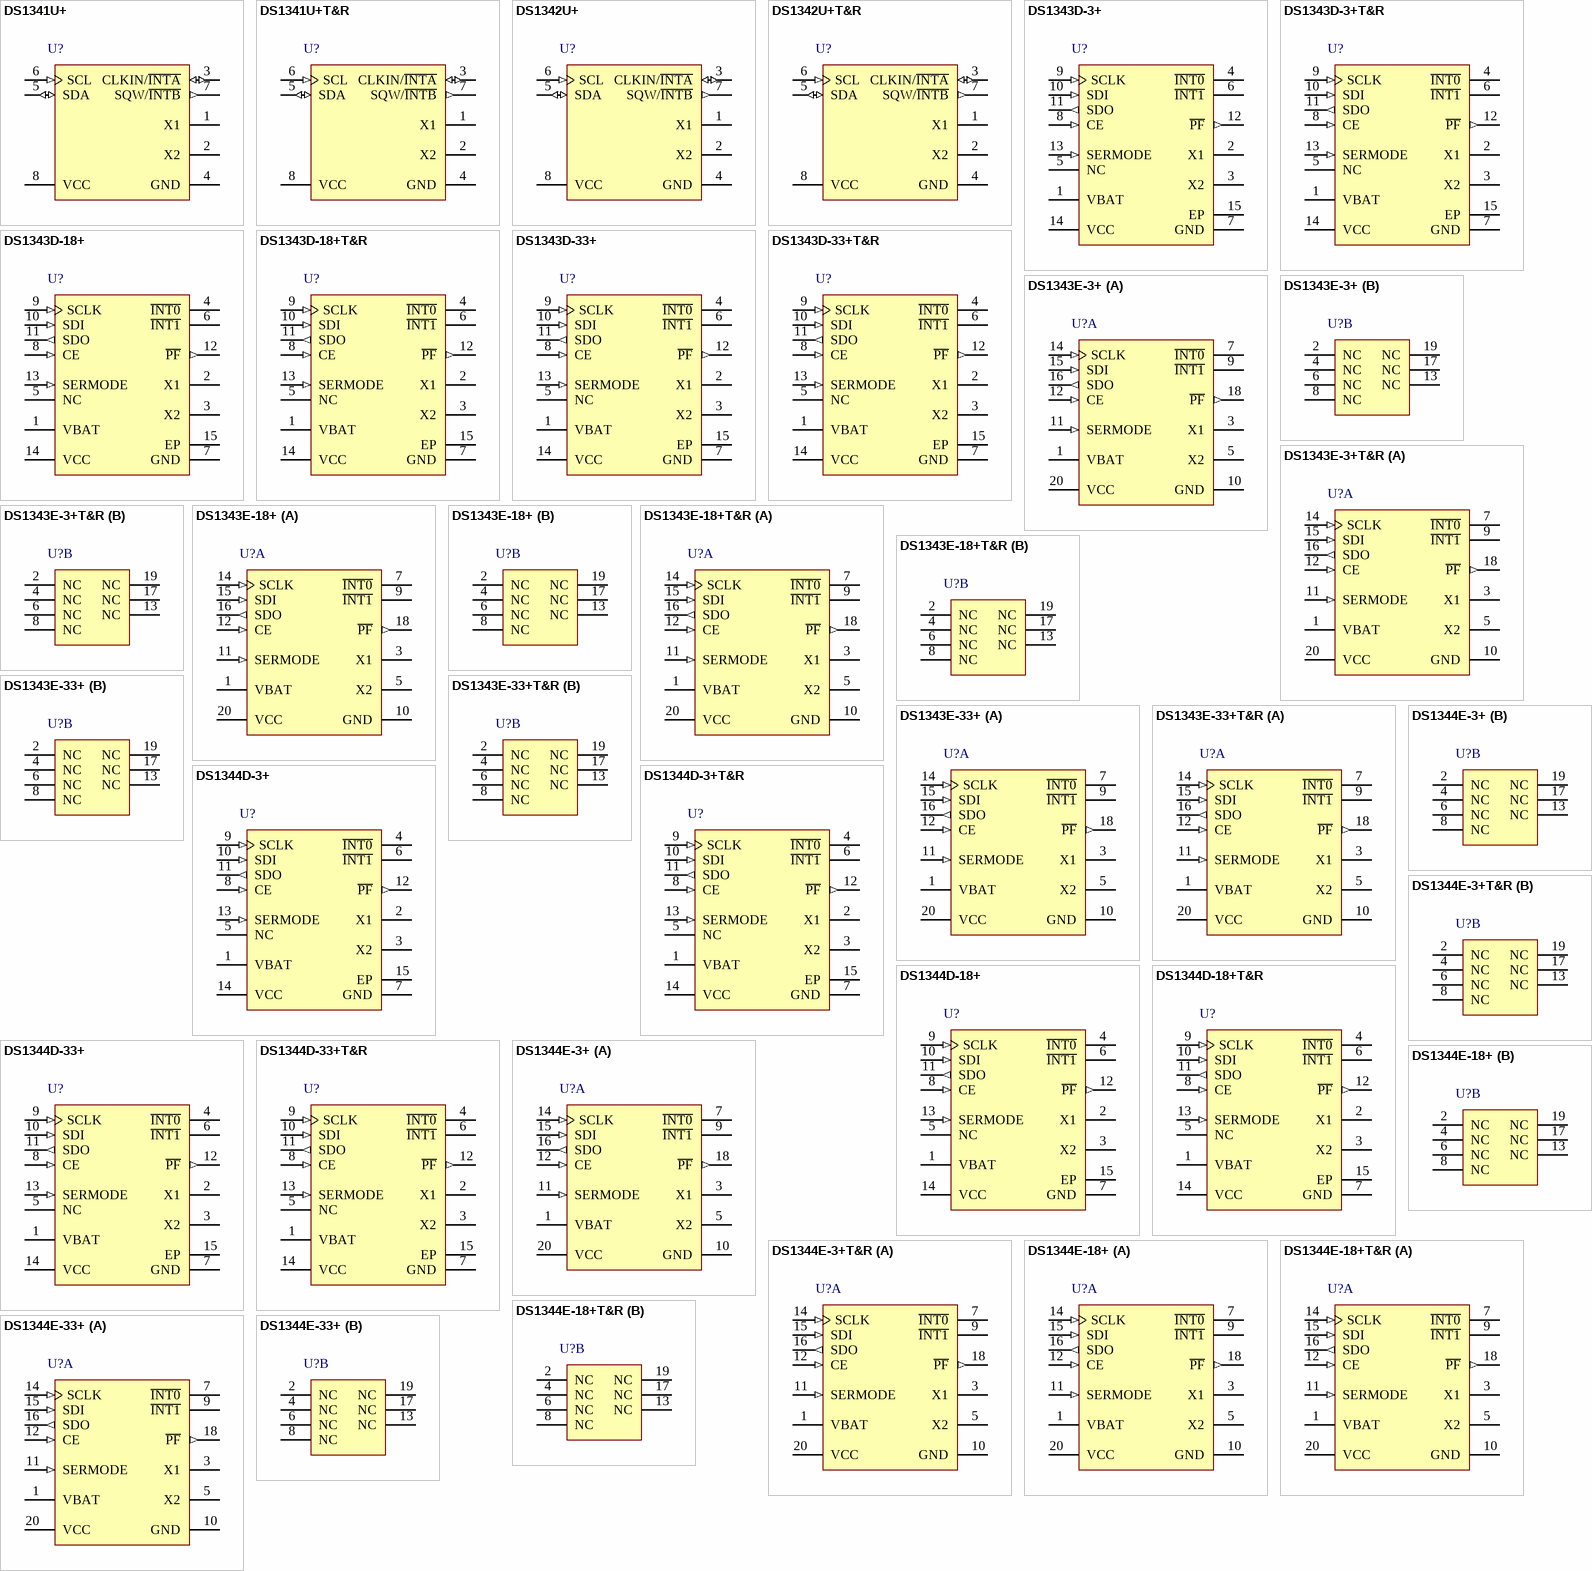
[diagram p6: symbols DS1341U+ to DS1344E-33+]

## DS1341U+
designator U?
Low-Current I2C Real-Time Clock for High-ESR Crystal (6pF), 8-Pin uSOP, -40 to 85 degC, Pb-Free; DatasheetVersion: Rev 2, Jan-2012; PackageVersion: revL, 2009; PackageReference: U8+1; PackageDescription: 8-Pin Micro-MAX, Thin Shrink Small-Outline, 0.65 mm Pitch, uMAX, uSOP, Pb-Free; Code_JEDEC: MO-187-AA; ComponentLink1Description: Manufacturer URL; ComponentLink1URL: http://www.maxim-ic.com; ComponentLink2Description: Datasheet; ComponentLink2URL: http://datasheets.maxim-ic.com/en/ds/DS1341-DS1342.pdf; ComponentLink3Description: Package Specification; ComponentLink3URL: http://pdfserv.maxim-ic.com/package_dwgs/21-0036.PDF
footprint U8+1_N (TSOP, 8-Leads, Body 3x3mm, Pitch 0.65mm, IPC Medium Density)
footprint U8+1_L (TSOP, 8-Leads, Body 3x3mm, Pitch 0.65mm, IPC High Density)
footprint U8+1_M (TSOP, 8-Leads, Body 3x3mm, Pitch 0.65mm, IPC Low Density)
pins: 1 X1, 2 X2, 3 CLKIN/~{INTA} (io), 4 GND (power), 5 SDA (io), 6 SCL (in), 7 SQW/~{INTB} (out), 8 VCC (power)

## DS1341U+T&R
designator U?
Low-Current I2C Real-Time Clock for High-ESR Crystal (6pF), 8-Pin uSOP, -40 to 85 degC, Pb-Free, Reel; DatasheetVersion: Rev 2, Jan-2012; PackageVersion: revL, 2009; PackageReference: U8+1; PackageDescription: 8-Pin Micro-MAX, Thin Shrink Small-Outline, 0.65 mm Pitch, uMAX, uSOP, Pb-Free; Code_JEDEC: MO-187-AA; ComponentLink1Description: Manufacturer URL; ComponentLink1URL: http://www.maxim-ic.com; ComponentLink2Description: Datasheet; ComponentLink2URL: http://datasheets.maxim-ic.com/en/ds/DS1341-DS1342.pdf; ComponentLink3Description: Package Specification; ComponentLink3URL: http://pdfserv.maxim-ic.com/package_dwgs/21-0036.PDF
footprint U8+1_N (TSOP, 8-Leads, Body 3x3mm, Pitch 0.65mm, IPC Medium Density)
footprint U8+1_L (TSOP, 8-Leads, Body 3x3mm, Pitch 0.65mm, IPC High Density)
footprint U8+1_M (TSOP, 8-Leads, Body 3x3mm, Pitch 0.65mm, IPC Low Density)
pins: 1 X1, 2 X2, 3 CLKIN/~{INTA} (io), 4 GND (power), 5 SDA (io), 6 SCL (in), 7 SQW/~{INTB} (out), 8 VCC (power)

## DS1342U+
designator U?
Low-Current I2C Real-Time Clock for High-ESR Crystal (12.5pF), 8-Pin uSOP, -40 to 85 degC, Pb-Free; DatasheetVersion: Rev 2, Jan-2012; PackageVersion: revL, 2009; PackageReference: U8+1; PackageDescription: 8-Pin Micro-MAX, Thin Shrink Small-Outline, 0.65 mm Pitch, uMAX, uSOP, Pb-Free; Code_JEDEC: MO-187-AA; ComponentLink1Description: Manufacturer URL; ComponentLink1URL: http://www.maxim-ic.com; ComponentLink2Description: Datasheet; ComponentLink2URL: http://datasheets.maxim-ic.com/en/ds/DS1341-DS1342.pdf; ComponentLink3Description: Package Specification; ComponentLink3URL: http://pdfserv.maxim-ic.com/package_dwgs/21-0036.PDF
footprint U8+1_N (TSOP, 8-Leads, Body 3x3mm, Pitch 0.65mm, IPC Medium Density)
footprint U8+1_L (TSOP, 8-Leads, Body 3x3mm, Pitch 0.65mm, IPC High Density)
footprint U8+1_M (TSOP, 8-Leads, Body 3x3mm, Pitch 0.65mm, IPC Low Density)
pins: 1 X1, 2 X2, 3 CLKIN/~{INTA} (io), 4 GND (power), 5 SDA (io), 6 SCL (in), 7 SQW/~{INTB} (out), 8 VCC (power)

## DS1342U+T&R
designator U?
Low-Current I2C Real-Time Clock for High-ESR Crystal (12.5pF), 8-Pin uSOP, -40 to 85 degC, Pb-Free, Reel; DatasheetVersion: Rev 2, Jan-2012; PackageVersion: revL, 2009; PackageReference: U8+1; PackageDescription: 8-Pin Micro-MAX, Thin Shrink Small-Outline, 0.65 mm Pitch, uMAX, uSOP, Pb-Free; Code_JEDEC: MO-187-AA; ComponentLink1Description: Manufacturer URL; ComponentLink1URL: http://www.maxim-ic.com; ComponentLink2Description: Datasheet; ComponentLink2URL: http://datasheets.maxim-ic.com/en/ds/DS1341-DS1342.pdf; ComponentLink3Description: Package Specification; ComponentLink3URL: http://pdfserv.maxim-ic.com/package_dwgs/21-0036.PDF
footprint U8+1_N (TSOP, 8-Leads, Body 3x3mm, Pitch 0.65mm, IPC Medium Density)
footprint U8+1_L (TSOP, 8-Leads, Body 3x3mm, Pitch 0.65mm, IPC High Density)
footprint U8+1_M (TSOP, 8-Leads, Body 3x3mm, Pitch 0.65mm, IPC Low Density)
pins: 1 X1, 2 X2, 3 CLKIN/~{INTA} (io), 4 GND (power), 5 SDA (io), 6 SCL (in), 7 SQW/~{INTB} (out), 8 VCC (power)

## DS1343D-3+
designator U?
Low-Current SPI/3-Wire Real-Time Clock, 3.0V, 14-Pin TDFN-EP, -40 to 85 degC, Pb-Free; DatasheetVersion: Rev 1, Dec-2011; PackageVersion: revJ, 2009; PackageReference: T1433+2; PackageDescription: 14-Pin Plastic Very Very Thin Dual Flatpack No Leads (TDFN-EP), 3 x 3 x 0.8 mm Body, 0.4 mm Pitch, Pb-Free; ComponentLink1Description: Manufacturer URL; ComponentLink1URL: http://www.maxim-ic.com; ComponentLink2Description: Datasheet; ComponentLink2URL: http://datasheets.maxim-ic.com/en/ds/DS1343-DS1344.pdf; ComponentLink3Description: Package Specification; ComponentLink3URL: http://pdfserv.maxim-ic.com/package_dwgs/21-0137.PDF
footprint T1433+2_V (SON, 14-Leads, Body 3x3mm, Pitch 0.4mm, Thermal Pad 2.35x1.78mm, Maxim Recommended)
pins: 1 VBAT (power), 2 X1, 3 X2, 4 ~{INT0} (oc), 5 NC, 6 ~{INT1} (oc), 7 GND (power), 8 CE (in), 9 SCLK (in), 10 SDI (in), 11 SDO (out), 12 ~{PF} (out), 13 SERMODE (in), 14 VCC (power), 15 EP (power)

## DS1343D-3+T&R
designator U?
Low-Current SPI/3-Wire Real-Time Clock, 3.0V, 14-Pin TDFN-EP, -40 to 85 degC, Pb-Free, Reel; DatasheetVersion: Rev 1, Dec-2011; PackageVersion: revJ, 2009; PackageReference: T1433+2; PackageDescription: 14-Pin Plastic Very Very Thin Dual Flatpack No Leads (TDFN-EP), 3 x 3 x 0.8 mm Body, 0.4 mm Pitch, Pb-Free; ComponentLink1Description: Manufacturer URL; ComponentLink1URL: http://www.maxim-ic.com; ComponentLink2Description: Datasheet; ComponentLink2URL: http://datasheets.maxim-ic.com/en/ds/DS1343-DS1344.pdf; ComponentLink3Description: Package Specification; ComponentLink3URL: http://pdfserv.maxim-ic.com/package_dwgs/21-0137.PDF
footprint T1433+2_V (SON, 14-Leads, Body 3x3mm, Pitch 0.4mm, Thermal Pad 2.35x1.78mm, Maxim Recommended)
pins: 1 VBAT (power), 2 X1, 3 X2, 4 ~{INT0} (oc), 5 NC, 6 ~{INT1} (oc), 7 GND (power), 8 CE (in), 9 SCLK (in), 10 SDI (in), 11 SDO (out), 12 ~{PF} (out), 13 SERMODE (in), 14 VCC (power), 15 EP (power)

## DS1343D-18+
designator U?
Low-Current SPI/3-Wire Real-Time Clock, 1.8V, 14-Pin TDFN-EP, -40 to 85 degC, Pb-Free; DatasheetVersion: Rev 1, Dec-2011; PackageVersion: revJ, 2009; PackageReference: T1433+2; PackageDescription: 14-Pin Plastic Very Very Thin Dual Flatpack No Leads (TDFN-EP), 3 x 3 x 0.8 mm Body, 0.4 mm Pitch, Pb-Free; ComponentLink1Description: Manufacturer URL; ComponentLink1URL: http://www.maxim-ic.com; ComponentLink2Description: Datasheet; ComponentLink2URL: http://datasheets.maxim-ic.com/en/ds/DS1343-DS1344.pdf; ComponentLink3Description: Package Specification; ComponentLink3URL: http://pdfserv.maxim-ic.com/package_dwgs/21-0137.PDF
footprint T1433+2_V (SON, 14-Leads, Body 3x3mm, Pitch 0.4mm, Thermal Pad 2.35x1.78mm, Maxim Recommended)
pins: 1 VBAT (power), 2 X1, 3 X2, 4 ~{INT0} (oc), 5 NC, 6 ~{INT1} (oc), 7 GND (power), 8 CE (in), 9 SCLK (in), 10 SDI (in), 11 SDO (out), 12 ~{PF} (out), 13 SERMODE (in), 14 VCC (power), 15 EP (power)

## DS1343D-18+T&R
designator U?
Low-Current SPI/3-Wire Real-Time Clock, 1.8V, 14-Pin TDFN-EP, -40 to 85 degC, Pb-Free, Reel; DatasheetVersion: Rev 1, Dec-2011; PackageVersion: revJ, 2009; PackageReference: T1433+2; PackageDescription: 14-Pin Plastic Very Very Thin Dual Flatpack No Leads (TDFN-EP), 3 x 3 x 0.8 mm Body, 0.4 mm Pitch, Pb-Free; ComponentLink1Description: Manufacturer URL; ComponentLink1URL: http://www.maxim-ic.com; ComponentLink2Description: Datasheet; ComponentLink2URL: http://datasheets.maxim-ic.com/en/ds/DS1343-DS1344.pdf; ComponentLink3Description: Package Specification; ComponentLink3URL: http://pdfserv.maxim-ic.com/package_dwgs/21-0137.PDF
footprint T1433+2_V (SON, 14-Leads, Body 3x3mm, Pitch 0.4mm, Thermal Pad 2.35x1.78mm, Maxim Recommended)
pins: 1 VBAT (power), 2 X1, 3 X2, 4 ~{INT0} (oc), 5 NC, 6 ~{INT1} (oc), 7 GND (power), 8 CE (in), 9 SCLK (in), 10 SDI (in), 11 SDO (out), 12 ~{PF} (out), 13 SERMODE (in), 14 VCC (power), 15 EP (power)

## DS1343D-33+
designator U?
Low-Current SPI/3-Wire Real-Time Clock, 3.3V, 14-Pin TDFN-EP, -40 to 85 degC, Pb-Free; DatasheetVersion: Rev 1, Dec-2011; PackageVersion: revJ, 2009; PackageReference: T1433+2; PackageDescription: 14-Pin Plastic Very Very Thin Dual Flatpack No Leads (TDFN-EP), 3 x 3 x 0.8 mm Body, 0.4 mm Pitch, Pb-Free; ComponentLink1Description: Manufacturer URL; ComponentLink1URL: http://www.maxim-ic.com; ComponentLink2Description: Datasheet; ComponentLink2URL: http://datasheets.maxim-ic.com/en/ds/DS1343-DS1344.pdf; ComponentLink3Description: Package Specification; ComponentLink3URL: http://pdfserv.maxim-ic.com/package_dwgs/21-0137.PDF
footprint T1433+2_V (SON, 14-Leads, Body 3x3mm, Pitch 0.4mm, Thermal Pad 2.35x1.78mm, Maxim Recommended)
pins: 1 VBAT (power), 2 X1, 3 X2, 4 ~{INT0} (oc), 5 NC, 6 ~{INT1} (oc), 7 GND (power), 8 CE (in), 9 SCLK (in), 10 SDI (in), 11 SDO (out), 12 ~{PF} (out), 13 SERMODE (in), 14 VCC (power), 15 EP (power)

## DS1343D-33+T&R
designator U?
Low-Current SPI/3-Wire Real-Time Clock, 3.3V, 14-Pin TDFN-EP, -40 to 85 degC, Pb-Free, Reel; DatasheetVersion: Rev 1, Dec-2011; PackageVersion: revJ, 2009; PackageReference: T1433+2; PackageDescription: 14-Pin Plastic Very Very Thin Dual Flatpack No Leads (TDFN-EP), 3 x 3 x 0.8 mm Body, 0.4 mm Pitch, Pb-Free; ComponentLink1Description: Manufacturer URL; ComponentLink1URL: http://www.maxim-ic.com; ComponentLink2Description: Datasheet; ComponentLink2URL: http://datasheets.maxim-ic.com/en/ds/DS1343-DS1344.pdf; ComponentLink3Description: Package Specification; ComponentLink3URL: http://pdfserv.maxim-ic.com/package_dwgs/21-0137.PDF
footprint T1433+2_V (SON, 14-Leads, Body 3x3mm, Pitch 0.4mm, Thermal Pad 2.35x1.78mm, Maxim Recommended)
pins: 1 VBAT (power), 2 X1, 3 X2, 4 ~{INT0} (oc), 5 NC, 6 ~{INT1} (oc), 7 GND (power), 8 CE (in), 9 SCLK (in), 10 SDI (in), 11 SDO (out), 12 ~{PF} (out), 13 SERMODE (in), 14 VCC (power), 15 EP (power)

## DS1343E-3+
designator U?
Low-Current SPI/3-Wire Real-Time Clock, 3.0V, 20-Pin TSSOP, -40 to 85 degC, Pb-Free; DatasheetVersion: Rev 1, Dec-2011; PackageVersion: revL, 2010; PackageReference: U20+1; PackageDescription: 20-Pin Thin Shrink Small-Outline Package, 4.4 mm Body, TSSOP, Pb-Free; Code_JEDEC: MO-153-AC; ComponentLink1Description: Manufacturer URL; ComponentLink1URL: http://www.maxim-ic.com; ComponentLink2Description: Datasheet; ComponentLink2URL: http://datasheets.maxim-ic.com/en/ds/DS1343-DS1344.pdf; ComponentLink3Description: Package Specification; ComponentLink3URL: http://pdfserv.maxim-ic.com/package_dwgs/21-0066.PDF
footprint U20+1_N (TSOP, 20-Leads, Body 6.5x4.4mm, Pitch 0.65mm, IPC Medium Density)
footprint U20+1_L (TSOP, 20-Leads, Body 6.5x4.4mm, Pitch 0.65mm, IPC High Density)
footprint U20+1_M (TSOP, 20-Leads, Body 6.5x4.4mm, Pitch 0.65mm, IPC Low Density)
part A pins: 1 VBAT (power), 3 X1, 5 X2, 7 ~{INT0} (oc), 9 ~{INT1} (oc), 10 GND (power), 11 SERMODE (in), 12 CE (in), 14 SCLK (in), 15 SDI (in), 16 SDO (out), 18 ~{PF} (out), 20 VCC (power)
part B pins: 2 NC, 4 NC, 6 NC, 8 NC, 13 NC, 17 NC, 19 NC

## DS1343E-3+T&R
designator U?
Low-Current SPI/3-Wire Real-Time Clock, 3.0V, 20-Pin TSSOP, -40 to 85 degC, Pb-Free, Reel; DatasheetVersion: Rev 1, Dec-2011; PackageVersion: revL, 2010; PackageReference: U20+1; PackageDescription: 20-Pin Thin Shrink Small-Outline Package, 4.4 mm Body, TSSOP, Pb-Free; Code_JEDEC: MO-153-AC; ComponentLink1Description: Manufacturer URL; ComponentLink1URL: http://www.maxim-ic.com; ComponentLink2Description: Datasheet; ComponentLink2URL: http://datasheets.maxim-ic.com/en/ds/DS1343-DS1344.pdf; ComponentLink3Description: Package Specification; ComponentLink3URL: http://pdfserv.maxim-ic.com/package_dwgs/21-0066.PDF
footprint U20+1_N (TSOP, 20-Leads, Body 6.5x4.4mm, Pitch 0.65mm, IPC Medium Density)
footprint U20+1_L (TSOP, 20-Leads, Body 6.5x4.4mm, Pitch 0.65mm, IPC High Density)
footprint U20+1_M (TSOP, 20-Leads, Body 6.5x4.4mm, Pitch 0.65mm, IPC Low Density)
part A pins: 1 VBAT (power), 3 X1, 5 X2, 7 ~{INT0} (oc), 9 ~{INT1} (oc), 10 GND (power), 11 SERMODE (in), 12 CE (in), 14 SCLK (in), 15 SDI (in), 16 SDO (out), 18 ~{PF} (out), 20 VCC (power)
part B pins: 2 NC, 4 NC, 6 NC, 8 NC, 13 NC, 17 NC, 19 NC

## DS1343E-18+
designator U?
Low-Current SPI/3-Wire Real-Time Clock, 1.8V, 20-Pin TSSOP, -40 to 85 degC, Pb-Free; DatasheetVersion: Rev 1, Dec-2011; PackageVersion: revL, 2010; PackageReference: U20+1; PackageDescription: 20-Pin Thin Shrink Small-Outline Package, 4.4 mm Body, TSSOP, Pb-Free; Code_JEDEC: MO-153-AC; ComponentLink1Description: Manufacturer URL; ComponentLink1URL: http://www.maxim-ic.com; ComponentLink2Description: Datasheet; ComponentLink2URL: http://datasheets.maxim-ic.com/en/ds/DS1343-DS1344.pdf; ComponentLink3Description: Package Specification; ComponentLink3URL: http://pdfserv.maxim-ic.com/package_dwgs/21-0066.PDF
footprint U20+1_N (TSOP, 20-Leads, Body 6.5x4.4mm, Pitch 0.65mm, IPC Medium Density)
footprint U20+1_L (TSOP, 20-Leads, Body 6.5x4.4mm, Pitch 0.65mm, IPC High Density)
footprint U20+1_M (TSOP, 20-Leads, Body 6.5x4.4mm, Pitch 0.65mm, IPC Low Density)
part A pins: 1 VBAT (power), 3 X1, 5 X2, 7 ~{INT0} (oc), 9 ~{INT1} (oc), 10 GND (power), 11 SERMODE (in), 12 CE (in), 14 SCLK (in), 15 SDI (in), 16 SDO (out), 18 ~{PF} (out), 20 VCC (power)
part B pins: 2 NC, 4 NC, 6 NC, 8 NC, 13 NC, 17 NC, 19 NC

## DS1343E-18+T&R
designator U?
Low-Current SPI/3-Wire Real-Time Clock, 1.8V, 20-Pin TSSOP, -40 to 85 degC, Pb-Free, Reel; DatasheetVersion: Rev 1, Dec-2011; PackageVersion: revL, 2010; PackageReference: U20+1; PackageDescription: 20-Pin Thin Shrink Small-Outline Package, 4.4 mm Body, TSSOP, Pb-Free; Code_JEDEC: MO-153-AC; ComponentLink1Description: Manufacturer URL; ComponentLink1URL: http://www.maxim-ic.com; ComponentLink2Description: Datasheet; ComponentLink2URL: http://datasheets.maxim-ic.com/en/ds/DS1343-DS1344.pdf; ComponentLink3Description: Package Specification; ComponentLink3URL: http://pdfserv.maxim-ic.com/package_dwgs/21-0066.PDF
footprint U20+1_N (TSOP, 20-Leads, Body 6.5x4.4mm, Pitch 0.65mm, IPC Medium Density)
footprint U20+1_L (TSOP, 20-Leads, Body 6.5x4.4mm, Pitch 0.65mm, IPC High Density)
footprint U20+1_M (TSOP, 20-Leads, Body 6.5x4.4mm, Pitch 0.65mm, IPC Low Density)
part A pins: 1 VBAT (power), 3 X1, 5 X2, 7 ~{INT0} (oc), 9 ~{INT1} (oc), 10 GND (power), 11 SERMODE (in), 12 CE (in), 14 SCLK (in), 15 SDI (in), 16 SDO (out), 18 ~{PF} (out), 20 VCC (power)
part B pins: 2 NC, 4 NC, 6 NC, 8 NC, 13 NC, 17 NC, 19 NC

## DS1343E-33+
designator U?
Low-Current SPI/3-Wire Real-Time Clock, 3.3V, 20-Pin TSSOP, -40 to 85 degC, Pb-Free; DatasheetVersion: Rev 1, Dec-2011; PackageVersion: revL, 2010; PackageReference: U20+1; PackageDescription: 20-Pin Thin Shrink Small-Outline Package, 4.4 mm Body, TSSOP, Pb-Free; Code_JEDEC: MO-153-AC; ComponentLink1Description: Manufacturer URL; ComponentLink1URL: http://www.maxim-ic.com; ComponentLink2Description: Datasheet; ComponentLink2URL: http://datasheets.maxim-ic.com/en/ds/DS1343-DS1344.pdf; ComponentLink3Description: Package Specification; ComponentLink3URL: http://pdfserv.maxim-ic.com/package_dwgs/21-0066.PDF
footprint U20+1_N (TSOP, 20-Leads, Body 6.5x4.4mm, Pitch 0.65mm, IPC Medium Density)
footprint U20+1_L (TSOP, 20-Leads, Body 6.5x4.4mm, Pitch 0.65mm, IPC High Density)
footprint U20+1_M (TSOP, 20-Leads, Body 6.5x4.4mm, Pitch 0.65mm, IPC Low Density)
part A pins: 1 VBAT (power), 3 X1, 5 X2, 7 ~{INT0} (oc), 9 ~{INT1} (oc), 10 GND (power), 11 SERMODE (in), 12 CE (in), 14 SCLK (in), 15 SDI (in), 16 SDO (out), 18 ~{PF} (out), 20 VCC (power)
part B pins: 2 NC, 4 NC, 6 NC, 8 NC, 13 NC, 17 NC, 19 NC

## DS1343E-33+T&R
designator U?
Low-Current SPI/3-Wire Real-Time Clock, 3.3V, 20-Pin TSSOP, -40 to 85 degC, Pb-Free, Reel; DatasheetVersion: Rev 1, Dec-2011; PackageVersion: revL, 2010; PackageReference: U20+1; PackageDescription: 20-Pin Thin Shrink Small-Outline Package, 4.4 mm Body, TSSOP, Pb-Free; Code_JEDEC: MO-153-AC; ComponentLink1Description: Manufacturer URL; ComponentLink1URL: http://www.maxim-ic.com; ComponentLink2Description: Datasheet; ComponentLink2URL: http://datasheets.maxim-ic.com/en/ds/DS1343-DS1344.pdf; ComponentLink3Description: Package Specification; ComponentLink3URL: http://pdfserv.maxim-ic.com/package_dwgs/21-0066.PDF
footprint U20+1_N (TSOP, 20-Leads, Body 6.5x4.4mm, Pitch 0.65mm, IPC Medium Density)
footprint U20+1_L (TSOP, 20-Leads, Body 6.5x4.4mm, Pitch 0.65mm, IPC High Density)
footprint U20+1_M (TSOP, 20-Leads, Body 6.5x4.4mm, Pitch 0.65mm, IPC Low Density)
part A pins: 1 VBAT (power), 3 X1, 5 X2, 7 ~{INT0} (oc), 9 ~{INT1} (oc), 10 GND (power), 11 SERMODE (in), 12 CE (in), 14 SCLK (in), 15 SDI (in), 16 SDO (out), 18 ~{PF} (out), 20 VCC (power)
part B pins: 2 NC, 4 NC, 6 NC, 8 NC, 13 NC, 17 NC, 19 NC

## DS1344D-3+
designator U?
Low-Current SPI/3-Wire Real-Time Clock, 3.0V, 14-Pin TDFN-EP, -40 to 85 degC, Pb-Free; DatasheetVersion: Rev 1, Dec-2011; PackageVersion: revJ, 2009; PackageReference: T1433+2; PackageDescription: 14-Pin Plastic Very Very Thin Dual Flatpack No Leads (TDFN-EP), 3 x 3 x 0.8 mm Body, 0.4 mm Pitch, Pb-Free; ComponentLink1Description: Manufacturer URL; ComponentLink1URL: http://www.maxim-ic.com; ComponentLink2Description: Datasheet; ComponentLink2URL: http://datasheets.maxim-ic.com/en/ds/DS1343-DS1344.pdf; ComponentLink3Description: Package Specification; ComponentLink3URL: http://pdfserv.maxim-ic.com/package_dwgs/21-0137.PDF
footprint T1433+2_V (SON, 14-Leads, Body 3x3mm, Pitch 0.4mm, Thermal Pad 2.35x1.78mm, Maxim Recommended)
pins: 1 VBAT (power), 2 X1, 3 X2, 4 ~{INT0} (oc), 5 NC, 6 ~{INT1} (oc), 7 GND (power), 8 CE (in), 9 SCLK (in), 10 SDI (in), 11 SDO (out), 12 ~{PF} (out), 13 SERMODE (in), 14 VCC (power), 15 EP (power)

## DS1344D-3+T&R
designator U?
Low-Current SPI/3-Wire Real-Time Clock, 3.0V, 14-Pin TDFN-EP, -40 to 85 degC, Pb-Free, Reel; DatasheetVersion: Rev 1, Dec-2011; PackageVersion: revJ, 2009; PackageReference: T1433+2; PackageDescription: 14-Pin Plastic Very Very Thin Dual Flatpack No Leads (TDFN-EP), 3 x 3 x 0.8 mm Body, 0.4 mm Pitch, Pb-Free; ComponentLink1Description: Manufacturer URL; ComponentLink1URL: http://www.maxim-ic.com; ComponentLink2Description: Datasheet; ComponentLink2URL: http://datasheets.maxim-ic.com/en/ds/DS1343-DS1344.pdf; ComponentLink3Description: Package Specification; ComponentLink3URL: http://pdfserv.maxim-ic.com/package_dwgs/21-0137.PDF
footprint T1433+2_V (SON, 14-Leads, Body 3x3mm, Pitch 0.4mm, Thermal Pad 2.35x1.78mm, Maxim Recommended)
pins: 1 VBAT (power), 2 X1, 3 X2, 4 ~{INT0} (oc), 5 NC, 6 ~{INT1} (oc), 7 GND (power), 8 CE (in), 9 SCLK (in), 10 SDI (in), 11 SDO (out), 12 ~{PF} (out), 13 SERMODE (in), 14 VCC (power), 15 EP (power)